# Altium integrated library Micron Memory PSRAM-CellularRAM.IntLib: 9 symbols (part 1 of 2)
Pins are listed as number, name and electrical type; pins without a type are passive.

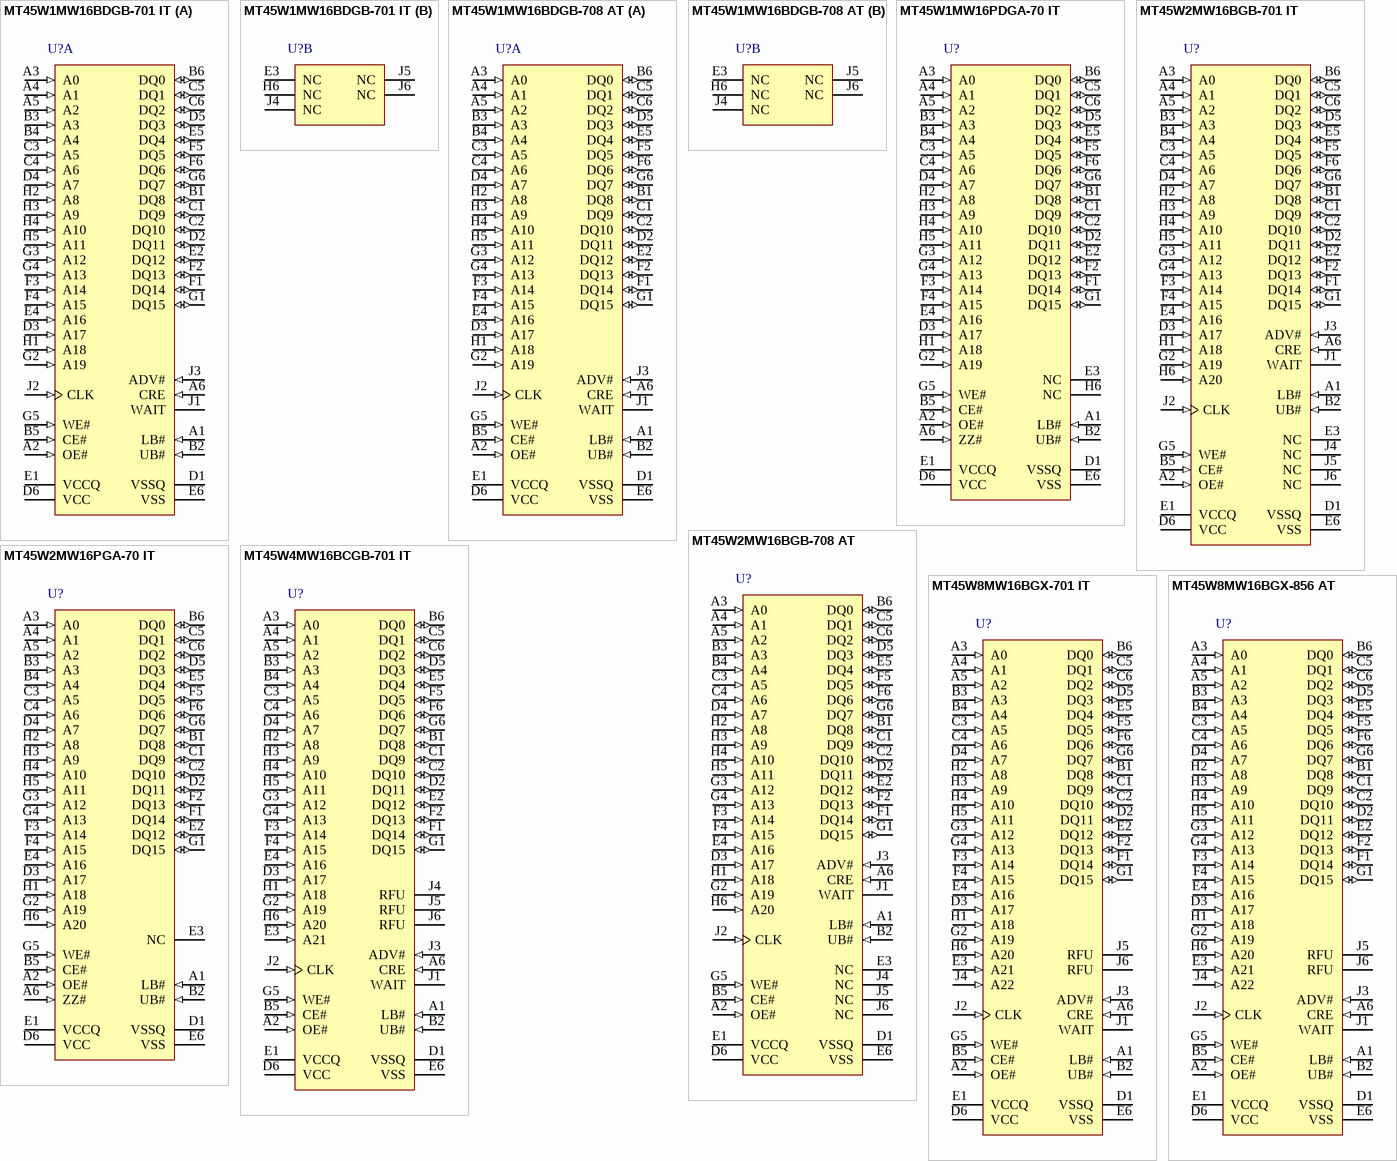
[diagram p0: symbols MT45W1MW16BDGB-701 IT to MT45W8MW16BGX-856 AT]

## MT45W1MW16BDGB-701 IT
designator U?
16Mb PSRAM Celluar RAM, 1Mb x 16, 70ns, 1.7V - 3.3V, -40 to 85 degC, 54-Ball VFBGA, Pb-Free; Manufacturer: Micron; PartNumber: MT45W1MW16BDGB-701 IT; Core Voltage: 1.7V-1.95V; Op. Temp.: -40C to +85C; Read/Write Mode: Async/Page/Burst; DatasheetVersion: Rev. H; PackageVersion: Rev.F; PackageReference: MICT-GB-54; PackageDescription: 54-Ball Very Thin Profile Fine-Pitch Ball Grid Array, 8 x 6 mm, Pitch 0.75 mm; Access Time: 70ns; Density: 16Mb; Depth: 1Mb; I/O Voltage: 1.7V-3.3V; Package: VFBGA; Part Status: Production; Pin Count: 54-ball; RoHS: Yes; Width: x16; Mounting Technology: Surface Mount; ComponentLink1Description: Manufacturer URL; ComponentLink1URL: http://www.micron.com/; ComponentLink2Description: Datasheet; ComponentLink2URL: http://www.micron.com/~/media/Documents/Products/Data%20Sheet/DRAM/Mobile%20DRAM/PSRAM/16mb_burst_cr1_0_p23z.pdf; ComponentLink3Description: Package Specification; ComponentLink3URL: http://www.micron.com/~/media/Documents/Products/Data%20Sheet/DRAM/Mobile%20DRAM/PSRAM/64Mb_burst_cr1_5_p25z.pdf
footprint MICT-GB-54 (BGA, 54-Balls, Body 8x6mm, Pitch 0.75mm)
part A pins: A1 LB# (in) "Lower byte enable: DQ[7:0].", A2 OE# (in) "Output enable: Enables the output buffers when LOW. When OE# is HIGH, the output buffers are disabled.", A3 A0 (in) "Address inputs: Inputs for addresses during READ and WRITE operations. Addresses are internally latched during READ and WRITE cycles. The address lines are also used to define the value to be loaded into the bus (See Datasheet)", A4 A1 (in) "Address inputs: Inputs for addresses during READ and WRITE operations. Addresses are internally latched during READ and WRITE cycles. The address lines are also used to define the value to be loaded into the bus (See Datasheet)", A5 A2 (in) "Address inputs: Inputs for addresses during READ and WRITE operations. Addresses are internally latched during READ and WRITE cycles. The address lines are also used to define the value to be loaded into the bus (See Datasheet)", A6 CRE (in) "Configuration register enable: When CRE is HIGH, WRITE operations load the refresh configuration register or bus configuration register.", B1 DQ8 (io) "Data inputs/outputs", B2 UB# (in) "Upper byte enable: DQ[15:8]", B3 A3 (in) "Address inputs: Inputs for addresses during READ and WRITE operations. Addresses are internally latched during READ and WRITE cycles. The address lines are also used to define the value to be loaded into the bus (See Datasheet)", B4 A4 (in) "Address inputs: Inputs for addresses during READ and WRITE operations. Addresses are internally latched during READ and WRITE cycles. The address lines are also used to define the value to be loaded into the bus (See Datasheet)", B5 CE# (in) "Chip enable: Activates the device when LOW. When CE# is HIGH, the device is disabled and goes into standby or deep power-down mode.", B6 DQ0 (io) "Data inputs/outputs", C1 DQ9 (io) "Data inputs/outputs", C2 DQ10 (io) "Data inputs/outputs", C3 A5 (in) "Address inputs: Inputs for addresses during READ and WRITE operations. Addresses are internally latched during READ and WRITE cycles. The address lines are also used to define the value to be loaded into the bus (See Datasheet)", C4 A6 (in) "Address inputs: Inputs for addresses during READ and WRITE operations. Addresses are internally latched during READ and WRITE cycles. The address lines are also used to define the value to be loaded into the bus (See Datasheet)", C5 DQ1 (io) "Data inputs/outputs", C6 DQ2 (io) "Data inputs/outputs", D1 VSSQ (power) "VSSQ must be connected to ground.", D2 DQ11 (io) "Data inputs/outputs", D3 A17 (in) "Address inputs: Inputs for addresses during READ and WRITE operations. Addresses are internally latched during READ and WRITE cycles. The address lines are also used to define the value to be loaded into the bus (See Datasheet)", D4 A7 (in) "Address inputs: Inputs for addresses during READ and WRITE operations. Addresses are internally latched during READ and WRITE cycles. The address lines are also used to define the value to be loaded into the bus (See Datasheet)", D5 DQ3 (io) "Data inputs/outputs", D6 VCC (power) "Device power supply (1.7-1.95V): Power supply for device core operation", E1 VCCQ (power) "I/O power supply (1.7-3.6V): Power supply for input/output buffers.", E2 DQ12 (io) "Data inputs/outputs", E4 A16 (in) "Address inputs: Inputs for addresses during READ and WRITE operations. Addresses are internally latched during READ and WRITE cycles. The address lines are also used to define the value to be loaded into the bus (See Datasheet)", E5 DQ4 (io) "Data inputs/outputs", E6 VSS (power) "VSS must be connected to ground.", F1 DQ14 (io) "Data inputs/outputs", F2 DQ13 (io) "Data inputs/outputs", F3 A14 (in) "Address inputs: Inputs for addresses during READ and WRITE operations. Addresses are internally latched during READ and WRITE cycles. The address lines are also used to define the value to be loaded into the bus (See Datasheet)", F4 A15 (in) "Address inputs: Inputs for addresses during READ and WRITE operations. Addresses are internally latched during READ and WRITE cycles. The address lines are also used to define the value to be loaded into the bus (See Datasheet)", F5 DQ5 (io) "Data inputs/outputs", F6 DQ6 (io) "Data inputs/outputs", G1 DQ15 (io) "Data inputs/outputs", G2 A19 (in) "Address inputs: Inputs for addresses during READ and WRITE operations. Addresses are internally latched during READ and WRITE cycles. The address lines are also used to define the value to be loaded into the bus (See Datasheet)", G3 A12 (in) "Address inputs: Inputs for addresses during READ and WRITE operations. Addresses are internally latched during READ and WRITE cycles. The address lines are also used to define the value to be loaded into the bus (See Datasheet)", G4 A13 (in) "Address inputs: Inputs for addresses during READ and WRITE operations. Addresses are internally latched during READ and WRITE cycles. The address lines are also used to define the value to be loaded into the bus (See Datasheet)", G5 WE# (in) "Write enable: Determines if a given cycle is a WRITE cycle. If WE# is LOW, the cycle is a WRITE to either a configuration register or to the memory array", G6 DQ7 (io) "Data inputs/outputs", H1 A18 (in) "Address inputs: Inputs for addresses during READ and WRITE operations. Addresses are internally latched during READ and WRITE cycles. The address lines are also used to define the value to be loaded into the bus (See Datasheet)", H2 A8 (in) "Address inputs: Inputs for addresses during READ and WRITE operations. Addresses are internally latched during READ and WRITE cycles. The address lines are also used to define the value to be loaded into the bus (See Datasheet)", H3 A9 (in) "Address inputs: Inputs for addresses during READ and WRITE operations. Addresses are internally latched during READ and WRITE cycles. The address lines are also used to define the value to be loaded into the bus (See Datasheet)", H4 A10 (in) "Address inputs: Inputs for addresses during READ and WRITE operations. Addresses are internally latched during READ and WRITE cycles. The address lines are also used to define the value to be loaded into the bus (See Datasheet)", H5 A11 (in) "Address inputs: Inputs for addresses during READ and WRITE operations. Addresses are internally latched during READ and WRITE cycles. The address lines are also used to define the value to be loaded into the bus (See Datasheet)", J1 WAIT (hiz) "Wait: Provides data-valid feedback during burst READ and WRITE operations. The signal is gated by CE#. WAIT is used to arbitrate collisions between REFRESH and READ/WRITE operations. WAIT is asserted when a burst crosses a (See Datasheet)", J2 CLK (in) "Clock: Synchronizes the memory to the system operating frequency during synchronous operations. When configured for synchronous operation, the address is latched on the first rising CLK edge when ADV# is active. CLK is (See Datasheet)", J3 ADV# (in) "Address valid: Indicates that a valid address is present on the address inputs. Addresses can be latched on the rising edge of ADV# during asynchronous READ and WRITE operations. ADV# can be held LOW during asynchronous READ (See Datasheet)"
part B pins: E3 NC "Not internally connected.", H6 NC "Not internally connected.", J4 NC "Not internally connected.", J5 NC "Not internally connected.", J6 NC "Not internally connected."

## MT45W1MW16BDGB-708 AT
designator U?
16Mb PSRAM Celluar RAM, 1Mb x 16, 70ns, 1.7V - 3.3V, -40 to 105 degC, 54-Ball VFBGA, Pb-Free; Manufacturer: Micron; PartNumber: MT45W1MW16BDGB-708 AT; Core Voltage: 1.7V-1.95V; Op. Temp.: -40C to +105C; Read/Write Mode: Async/Page/Burst; DatasheetVersion: Rev. H; PackageVersion: Rev.F; PackageReference: MICT-GB-54; PackageDescription: 54-Ball Very Thin Profile Fine-Pitch Ball Grid Array, 8 x 6 mm, Pitch 0.75 mm; Access Time: 70ns; Density: 16Mb; Depth: 1Mb; I/O Voltage: 1.7V-3.3V; Package: VFBGA; Part Status: Production; Pin Count: 54-ball; RoHS: Green; Width: x16; Mounting Technology: Surface Mount; ComponentLink1Description: Manufacturer URL; ComponentLink1URL: http://www.micron.com/; ComponentLink2Description: Datasheet; ComponentLink2URL: http://www.micron.com/~/media/Documents/Products/Data%20Sheet/DRAM/Mobile%20DRAM/PSRAM/16mb_burst_cr1_0_p23z.pdf; ComponentLink3Description: Package Specification; ComponentLink3URL: http://www.micron.com/~/media/Documents/Products/Data%20Sheet/DRAM/Mobile%20DRAM/PSRAM/64Mb_burst_cr1_5_p25z.pdf
footprint MICT-GB-54 (BGA, 54-Balls, Body 8x6mm, Pitch 0.75mm)
part A pins: A1 LB# (in) "Lower byte enable: DQ[7:0].", A2 OE# (in) "Output enable: Enables the output buffers when LOW. When OE# is HIGH, the output buffers are disabled.", A3 A0 (in) "Address inputs: Inputs for addresses during READ and WRITE operations. Addresses are internally latched during READ and WRITE cycles. The address lines are also used to define the value to be loaded into the bus (See Datasheet)", A4 A1 (in) "Address inputs: Inputs for addresses during READ and WRITE operations. Addresses are internally latched during READ and WRITE cycles. The address lines are also used to define the value to be loaded into the bus (See Datasheet)", A5 A2 (in) "Address inputs: Inputs for addresses during READ and WRITE operations. Addresses are internally latched during READ and WRITE cycles. The address lines are also used to define the value to be loaded into the bus (See Datasheet)", A6 CRE (in) "Configuration register enable: When CRE is HIGH, WRITE operations load the refresh configuration register or bus configuration register.", B1 DQ8 (io) "Data inputs/outputs", B2 UB# (in) "Upper byte enable: DQ[15:8]", B3 A3 (in) "Address inputs: Inputs for addresses during READ and WRITE operations. Addresses are internally latched during READ and WRITE cycles. The address lines are also used to define the value to be loaded into the bus (See Datasheet)", B4 A4 (in) "Address inputs: Inputs for addresses during READ and WRITE operations. Addresses are internally latched during READ and WRITE cycles. The address lines are also used to define the value to be loaded into the bus (See Datasheet)", B5 CE# (in) "Chip enable: Activates the device when LOW. When CE# is HIGH, the device is disabled and goes into standby or deep power-down mode.", B6 DQ0 (io) "Data inputs/outputs", C1 DQ9 (io) "Data inputs/outputs", C2 DQ10 (io) "Data inputs/outputs", C3 A5 (in) "Address inputs: Inputs for addresses during READ and WRITE operations. Addresses are internally latched during READ and WRITE cycles. The address lines are also used to define the value to be loaded into the bus (See Datasheet)", C4 A6 (in) "Address inputs: Inputs for addresses during READ and WRITE operations. Addresses are internally latched during READ and WRITE cycles. The address lines are also used to define the value to be loaded into the bus (See Datasheet)", C5 DQ1 (io) "Data inputs/outputs", C6 DQ2 (io) "Data inputs/outputs", D1 VSSQ (power) "VSSQ must be connected to ground.", D2 DQ11 (io) "Data inputs/outputs", D3 A17 (in) "Address inputs: Inputs for addresses during READ and WRITE operations. Addresses are internally latched during READ and WRITE cycles. The address lines are also used to define the value to be loaded into the bus (See Datasheet)", D4 A7 (in) "Address inputs: Inputs for addresses during READ and WRITE operations. Addresses are internally latched during READ and WRITE cycles. The address lines are also used to define the value to be loaded into the bus (See Datasheet)", D5 DQ3 (io) "Data inputs/outputs", D6 VCC (power) "Device power supply (1.7-1.95V): Power supply for device core operation", E1 VCCQ (power) "I/O power supply (1.7-3.6V): Power supply for input/output buffers.", E2 DQ12 (io) "Data inputs/outputs", E4 A16 (in) "Address inputs: Inputs for addresses during READ and WRITE operations. Addresses are internally latched during READ and WRITE cycles. The address lines are also used to define the value to be loaded into the bus (See Datasheet)", E5 DQ4 (io) "Data inputs/outputs", E6 VSS (power) "VSS must be connected to ground.", F1 DQ14 (io) "Data inputs/outputs", F2 DQ13 (io) "Data inputs/outputs", F3 A14 (in) "Address inputs: Inputs for addresses during READ and WRITE operations. Addresses are internally latched during READ and WRITE cycles. The address lines are also used to define the value to be loaded into the bus (See Datasheet)", F4 A15 (in) "Address inputs: Inputs for addresses during READ and WRITE operations. Addresses are internally latched during READ and WRITE cycles. The address lines are also used to define the value to be loaded into the bus (See Datasheet)", F5 DQ5 (io) "Data inputs/outputs", F6 DQ6 (io) "Data inputs/outputs", G1 DQ15 (io) "Data inputs/outputs", G2 A19 (in) "Address inputs: Inputs for addresses during READ and WRITE operations. Addresses are internally latched during READ and WRITE cycles. The address lines are also used to define the value to be loaded into the bus (See Datasheet)", G3 A12 (in) "Address inputs: Inputs for addresses during READ and WRITE operations. Addresses are internally latched during READ and WRITE cycles. The address lines are also used to define the value to be loaded into the bus (See Datasheet)", G4 A13 (in) "Address inputs: Inputs for addresses during READ and WRITE operations. Addresses are internally latched during READ and WRITE cycles. The address lines are also used to define the value to be loaded into the bus (See Datasheet)", G5 WE# (in) "Write enable: Determines if a given cycle is a WRITE cycle. If WE# is LOW, the cycle is a WRITE to either a configuration register or to the memory array", G6 DQ7 (io) "Data inputs/outputs", H1 A18 (in) "Address inputs: Inputs for addresses during READ and WRITE operations. Addresses are internally latched during READ and WRITE cycles. The address lines are also used to define the value to be loaded into the bus (See Datasheet)", H2 A8 (in) "Address inputs: Inputs for addresses during READ and WRITE operations. Addresses are internally latched during READ and WRITE cycles. The address lines are also used to define the value to be loaded into the bus (See Datasheet)", H3 A9 (in) "Address inputs: Inputs for addresses during READ and WRITE operations. Addresses are internally latched during READ and WRITE cycles. The address lines are also used to define the value to be loaded into the bus (See Datasheet)", H4 A10 (in) "Address inputs: Inputs for addresses during READ and WRITE operations. Addresses are internally latched during READ and WRITE cycles. The address lines are also used to define the value to be loaded into the bus (See Datasheet)", H5 A11 (in) "Address inputs: Inputs for addresses during READ and WRITE operations. Addresses are internally latched during READ and WRITE cycles. The address lines are also used to define the value to be loaded into the bus (See Datasheet)", J1 WAIT (hiz) "Wait: Provides data-valid feedback during burst READ and WRITE operations. The signal is gated by CE#. WAIT is used to arbitrate collisions between REFRESH and READ/WRITE operations. WAIT is asserted when a burst crosses a (See Datasheet)", J2 CLK (in) "Clock: Synchronizes the memory to the system operating frequency during synchronous operations. When configured for synchronous operation, the address is latched on the first rising CLK edge when ADV# is active. CLK is (See Datasheet)", J3 ADV# (in) "Address valid: Indicates that a valid address is present on the address inputs. Addresses can be latched on the rising edge of ADV# during asynchronous READ and WRITE operations. ADV# can be held LOW during asynchronous READ (See Datasheet)"
part B pins: E3 NC "Not internally connected.", H6 NC "Not internally connected.", J4 NC "Not internally connected.", J5 NC "Not internally connected.", J6 NC "Not internally connected."

## MT45W1MW16PDGA-70 IT
designator U?
16Mb PSRAM Celluar RAM, 1Mb x 16, 70ns, 1.7V - 3.3V, -40 to 85 degC, 48-Ball VFBGA, Pb-Free; Manufacturer: Micron; PartNumber: MT45W1MW16PDGA-70 IT; Core Voltage: 1.7V-1.95V; Op. Temp.: -40C to +85C; Read/Write Mode: Async/Page; DatasheetVersion: Rev. F; PackageVersion: Rev.F; PackageReference: MICT-GA-48; PackageDescription: 48-Ball Very Thin Profile Fine-Pitch Ball Grid Array, 8 x 6 mm, Pitch 0.75 mm; Access Time: 70ns; Density: 16Mb; Depth: 1Mb; I/O Voltage: 1.7V-3.3V; Package: VFBGA; Part Status: Production; Pin Count: 48-ball; RoHS: Green; Width: x16; Mounting Technology: Surface Mount; ComponentLink1Description: Manufacturer URL; ComponentLink1URL: http://www.micron.com/; ComponentLink2Description: Datasheet; ComponentLink2URL: http://www.micron.com/~/media/Documents/Products/Data%20Sheet/DRAM/Mobile%20DRAM/PSRAM/16mb_asyncpage_cr1_0_p23z.pdf; ComponentLink3Description: Package Specification; ComponentLink3URL: http://www.micron.com/~/media/Documents/Products/Data%20Sheet/DRAM/Mobile%20DRAM/PSRAM/16mb_asyncpage_cr1_0_p23z.pdf
footprint MICT-GA-48 (BGA, 48-Balls, Body 8x6mm, Pitch 0.75mm)
pins: A1 LB# (in) "Lower byte enable: DQ[7:0]", A2 OE# (in) "Output enable: Enables the output buffers when LOW. When OE# is HIGH, the output buffers are disabled.", A3 A0 (in) "Address inputs: Inputs for the address accessed during READ or WRITE operations.The address lines are also used to define the value to be loaded into the CR.", A4 A1 (in) "Address inputs: Inputs for the address accessed during READ or WRITE operations.The address lines are also used to define the value to be loaded into the CR.", A5 A2 (in) "Address inputs: Inputs for the address accessed during READ or WRITE operations.The address lines are also used to define the value to be loaded into the CR.", A6 ZZ# (in) "Sleep enable: When ZZ# is LOW, the CR can be loaded or the device can enter one of two low-power modes (DPD or PAR).", B1 DQ8 (io) "Data inputs/outputs.", B2 UB# (in) "Upper byte enable: DQ[15:8]", B3 A3 (in) "Address inputs: Inputs for the address accessed during READ or WRITE operations.The address lines are also used to define the value to be loaded into the CR.", B4 A4 (in) "Address inputs: Inputs for the address accessed during READ or WRITE operations.The address lines are also used to define the value to be loaded into the CR.", B5 CE# (in) "Chip enable: Activates the device when LOW. When CE# is HIGH, the device is disabled and goes into standby power mode.", B6 DQ0 (io) "Data inputs/outputs.", C1 DQ9 (io) "Data inputs/outputs.", C2 DQ10 (io) "Data inputs/outputs.", C3 A5 (in) "Address inputs: Inputs for the address accessed during READ or WRITE operations.The address lines are also used to define the value to be loaded into the CR.", C4 A6 (in) "Address inputs: Inputs for the address accessed during READ or WRITE operations.The address lines are also used to define the value to be loaded into the CR.", C5 DQ1 (io) "Data inputs/outputs.", C6 DQ2 (io) "Data inputs/outputs.", D1 VSSQ (power) "VSSQ must be connected to ground.", D2 DQ11 (io) "Data inputs/outputs.", D3 A17 (in) "Address inputs: Inputs for the address accessed during READ or WRITE operations.The address lines are also used to define the value to be loaded into the CR.", D4 A7 (in) "Address inputs: Inputs for the address accessed during READ or WRITE operations.The address lines are also used to define the value to be loaded into the CR.", D5 DQ3 (io) "Data inputs/outputs.", D6 VCC (power) "Device power supply: (1.7V-1.95V) Power supply for device core operation.", E1 VCCQ (power) "I/O power supply: (1.7V-3.6V) Power supply for input/output buffers.", E2 DQ12 (io) "Data inputs/outputs.", E3 NC "Not internally connected.", E4 A16 (in) "Address inputs: Inputs for the address accessed during READ or WRITE operations.The address lines are also used to define the value to be loaded into the CR.", E5 DQ4 (io) "Data inputs/outputs.", E6 VSS (power) "VSS must be connected to ground.", F1 DQ14 (io) "Data inputs/outputs.", F2 DQ13 (io) "Data inputs/outputs.", F3 A14 (in) "Address inputs: Inputs for the address accessed during READ or WRITE operations.The address lines are also used to define the value to be loaded into the CR.", F4 A15 (in) "Address inputs: Inputs for the address accessed during READ or WRITE operations.The address lines are also used to define the value to be loaded into the CR.", F5 DQ5 (io) "Data inputs/outputs.", F6 DQ6 (io) "Data inputs/outputs.", G1 DQ15 (io) "Data inputs/outputs.", G2 A19 (in) "Address inputs: Inputs for the address accessed during READ or WRITE operations.The address lines are also used to define the value to be loaded into the CR.", G3 A12 (in) "Address inputs: Inputs for the address accessed during READ or WRITE operations.The address lines are also used to define the value to be loaded into the CR.", G4 A13 (in) "Address inputs: Inputs for the address accessed during READ or WRITE operations.The address lines are also used to define the value to be loaded into the CR.", G5 WE# (in) "Write enable: Enables WRITE operations when LOW.", G6 DQ7 (io) "Data inputs/outputs.", H1 A18 (in) "Address inputs: Inputs for the address accessed during READ or WRITE operations.The address lines are also used to define the value to be loaded into the CR.", H2 A8 (in) "Address inputs: Inputs for the address accessed during READ or WRITE operations.The address lines are also used to define the value to be loaded into the CR.", H3 A9 (in) "Address inputs: Inputs for the address accessed during READ or WRITE operations.The address lines are also used to define the value to be loaded into the CR.", H4 A10 (in) "Address inputs: Inputs for the address accessed during READ or WRITE operations.The address lines are also used to define the value to be loaded into the CR.", H5 A11 (in) "Address inputs: Inputs for the address accessed during READ or WRITE operations.The address lines are also used to define the value to be loaded into the CR.", H6 NC "Not internally connected."

## MT45W2MW16BGB-701 IT
designator U?
32Mb PSRAM Celluar RAM, 2Mb x 16, 70ns, 1.7V - 3.6V, -40 to 85 degC, 54-Ball VFBGA, Pb-Free; Manufacturer: Micron; PartNumber: MT45W2MW16BGB-701 IT; Core Voltage: 1.7V-1.95V; Op. Temp.: -40C to +85C; Read/Write Mode: Async/Page/Burst; DatasheetVersion: Rev. E; PackageVersion: Rev.F; PackageReference: MICT-GB-54; PackageDescription: 54-Ball Very Thin Profile Fine-Pitch Ball Grid Array, 8 x 6 mm, Pitch 0.75 mm; Access Time: 70ns; Density: 32Mb; Depth: 2Mb; I/O Voltage: 1.7V-3.6V; Package: VFBGA; Part Status: Production; Pin Count: 54-ball; RoHS: Green; Width: x16; Mounting Technology: Surface Mount; ComponentLink1Description: Manufacturer URL; ComponentLink1URL: http://www.micron.com/; ComponentLink2Description: Datasheet; ComponentLink2URL: http://www.micron.com/~/media/Documents/Products/Data%20Sheet/DRAM/Mobile%20DRAM/PSRAM/32mb_burst_c1_0_p24z.pdf; ComponentLink3Description: Package Specification; ComponentLink3URL: http://www.micron.com/~/media/Documents/Products/Data%20Sheet/DRAM/Mobile%20DRAM/PSRAM/64Mb_burst_cr1_5_p25z.pdf
footprint MICT-GB-54 (BGA, 54-Balls, Body 8x6mm, Pitch 0.75mm)
pins: A1 LB# (in) "Lower byte enable: DQ[7:0]", A2 OE# (in) "Output enable: Enables the output buffers when LOW. When OE# is HIGH, the output buffers are disabled.", A3 A0 (in) "Address inputs: Inputs for addresses during READ and WRITE operations. Addresses are internally latched during READ and WRITE cycles. The address lines are also used to define the value to be loaded into the BCR or the RCR", A4 A1 (in) "Address inputs: Inputs for addresses during READ and WRITE operations. Addresses are internally latched during READ and WRITE cycles. The address lines are also used to define the value to be loaded into the BCR or the RCR", A5 A2 (in) "Address inputs: Inputs for addresses during READ and WRITE operations. Addresses are internally latched during READ and WRITE cycles. The address lines are also used to define the value to be loaded into the BCR or the RCR", A6 CRE (in) "Configuration register enable: When CRE is HIGH, WRITE operations load the RCR or BCR, and READ operations either access the RCR or the BCR.", B1 DQ8 (io) "Data inputs/outputs.", B2 UB# (in) "Upper byte enable: DQ[15:8]", B3 A3 (in) "Address inputs: Inputs for addresses during READ and WRITE operations. Addresses are internally latched during READ and WRITE cycles. The address lines are also used to define the value to be loaded into the BCR or the RCR", B4 A4 (in) "Address inputs: Inputs for addresses during READ and WRITE operations. Addresses are internally latched during READ and WRITE cycles. The address lines are also used to define the value to be loaded into the BCR or the RCR", B5 CE# (in) "Chip enable: Activates the device when LOW. When CE# is HIGH, the device is disabled and goes into standby or deep power-down mode.", B6 DQ0 (io) "Data inputs/outputs.", C1 DQ9 (io) "Data inputs/outputs.", C2 DQ10 (io) "Data inputs/outputs.", C3 A5 (in) "Address inputs: Inputs for addresses during READ and WRITE operations. Addresses are internally latched during READ and WRITE cycles. The address lines are also used to define the value to be loaded into the BCR or the RCR", C4 A6 (in) "Address inputs: Inputs for addresses during READ and WRITE operations. Addresses are internally latched during READ and WRITE cycles. The address lines are also used to define the value to be loaded into the BCR or the RCR", C5 DQ1 (io) "Data inputs/outputs.", C6 DQ2 (io) "Data inputs/outputs.", D1 VSSQ (power) "VSSQ must be connected to ground", D2 DQ11 (io) "Data inputs/outputs.", D3 A17 (in) "Address inputs: Inputs for addresses during READ and WRITE operations. Addresses are internally latched during READ and WRITE cycles. The address lines are also used to define the value to be loaded into the BCR or the RCR", D4 A7 (in) "Address inputs: Inputs for addresses during READ and WRITE operations. Addresses are internally latched during READ and WRITE cycles. The address lines are also used to define the value to be loaded into the BCR or the RCR", D5 DQ3 (io) "Data inputs/outputs.", D6 VCC (power) "Device power supply (1.7-1.95V): Power supply for device core operation.", E1 VCCQ (power) "I/O power supply (1.7-3.6V): Power supply for input/output buffers.", E2 DQ12 (io) "Data inputs/outputs.", E3 NC "Not internally connected", E4 A16 (in) "Address inputs: Inputs for addresses during READ and WRITE operations. Addresses are internally latched during READ and WRITE cycles. The address lines are also used to define the value to be loaded into the BCR or the RCR", E5 DQ4 (io) "Data inputs/outputs.", E6 VSS (power) "VSS must be connected to ground.", F1 DQ14 (io) "Data inputs/outputs.", F2 DQ13 (io) "Data inputs/outputs.", F3 A14 (in) "Address inputs: Inputs for addresses during READ and WRITE operations. Addresses are internally latched during READ and WRITE cycles. The address lines are also used to define the value to be loaded into the BCR or the RCR", F4 A15 (in) "Address inputs: Inputs for addresses during READ and WRITE operations. Addresses are internally latched during READ and WRITE cycles. The address lines are also used to define the value to be loaded into the BCR or the RCR", F5 DQ5 (io) "Data inputs/outputs.", F6 DQ6 (io) "Data inputs/outputs.", G1 DQ15 (io) "Data inputs/outputs.", G2 A19 (in) "Address inputs: Inputs for addresses during READ and WRITE operations. Addresses are internally latched during READ and WRITE cycles. The address lines are also used to define the value to be loaded into the BCR or the RCR", G3 A12 (in) "Address inputs: Inputs for addresses during READ and WRITE operations. Addresses are internally latched during READ and WRITE cycles. The address lines are also used to define the value to be loaded into the BCR or the RCR", G4 A13 (in) "Address inputs: Inputs for addresses during READ and WRITE operations. Addresses are internally latched during READ and WRITE cycles. The address lines are also used to define the value to be loaded into the BCR or the RCR", G5 WE# (in) "WRITE enable: Determines whether a given cycle is a WRITE cycle. If WE# is LOW, the cycle is a WRITE to either a configuration register or the memory array.", G6 DQ7 (io) "Data inputs/outputs.", H1 A18 (in) "Address inputs: Inputs for addresses during READ and WRITE operations. Addresses are internally latched during READ and WRITE cycles. The address lines are also used to define the value to be loaded into the BCR or the RCR", H2 A8 (in) "Address inputs: Inputs for addresses during READ and WRITE operations. Addresses are internally latched during READ and WRITE cycles. The address lines are also used to define the value to be loaded into the BCR or the RCR", H3 A9 (in) "Address inputs: Inputs for addresses during READ and WRITE operations. Addresses are internally latched during READ and WRITE cycles. The address lines are also used to define the value to be loaded into the BCR or the RCR", H4 A10 (in) "Address inputs: Inputs for addresses during READ and WRITE operations. Addresses are internally latched during READ and WRITE cycles. The address lines are also used to define the value to be loaded into the BCR or the RCR", H5 A11 (in) "Address inputs: Inputs for addresses during READ and WRITE operations. Addresses are internally latched during READ and WRITE cycles. The address lines are also used to define the value to be loaded into the BCR or the RCR", H6 A20 (in) "Address inputs: Inputs for addresses during READ and WRITE operations. Addresses are internally latched during READ and WRITE cycles. The address lines are also used to define the value to be loaded into the BCR or the RCR", J1 WAIT (hiz) "Wait: Provides data-valid feedback during burst READ and WRITE operations. The signal is gated by CE#. WAIT is used to arbitrate collisions between REFRESH and READ/WRITE operations. WAIT is asserted when a burst crosses a (See Datasheet)", J2 CLK (in) "Clock: Synchronizes the memory to the system operating frequency during synchronous operations. When configured for synchronous operation, the address is latched on the first rising CLK edge when ADV# is active. CLK must be (See Datasheet)", J3 ADV# (in) "Address valid: Indicates that a valid address is present on the address inputs. Addresses can be latched on the rising edge of ADV# during asynchronous READ and WRITE operations. ADV# can be held LOW during asynchronous READ (See Datasheet)", J4 NC "Not internally connected", J5 NC "Not internally connected", J6 NC "Not internally connected"

## MT45W2MW16BGB-708 AT
designator U?
32Mb PSRAM Celluar RAM, 2Mb x 16, 70ns, 1.7V - 3.3V, -40 to 105 degC, 54-Ball VFBGA, Pb-Free; Manufacturer: Micron; PartNumber: MT45W2MW16BGB-708 AT; Core Voltage: 1.7V-1.95V; Op. Temp.: -40C to +105C; Read/Write Mode: Async/Page/Burst; DatasheetVersion: Rev. E; PackageVersion: Rev.F; PackageReference: MICT-GB-54; PackageDescription: 54-Ball Very Thin Profile Fine-Pitch Ball Grid Array, 8 x 6 mm, Pitch 0.75 mm; Access Time: 70ns; Density: 32Mb; Depth: 2Mb; I/O Voltage: 1.7V-3.3V; Package: VFBGA; Part Status: Production; Pin Count: 54-ball; RoHS: Green; Width: x16; Mounting Technology: Surface Mount; ComponentLink1Description: Manufacturer URL; ComponentLink1URL: http://www.micron.com/; ComponentLink2Description: Datasheet; ComponentLink2URL: http://www.micron.com/~/media/Documents/Products/Data%20Sheet/DRAM/Mobile%20DRAM/PSRAM/32mb_burst_c1_0_p24z.pdf; ComponentLink3Description: Package Specification; ComponentLink3URL: http://www.micron.com/~/media/Documents/Products/Data%20Sheet/DRAM/Mobile%20DRAM/PSRAM/64Mb_burst_cr1_5_p25z.pdf
footprint MICT-GB-54 (BGA, 54-Balls, Body 8x6mm, Pitch 0.75mm)
pins: A1 LB# (in) "Lower byte enable: DQ[7:0]", A2 OE# (in) "Output enable: Enables the output buffers when LOW. When OE# is HIGH, the output buffers are disabled.", A3 A0 (in) "Address inputs: Inputs for addresses during READ and WRITE operations. Addresses are internally latched during READ and WRITE cycles. The address lines are also used to define the value to be loaded into the BCR or the RCR", A4 A1 (in) "Address inputs: Inputs for addresses during READ and WRITE operations. Addresses are internally latched during READ and WRITE cycles. The address lines are also used to define the value to be loaded into the BCR or the RCR", A5 A2 (in) "Address inputs: Inputs for addresses during READ and WRITE operations. Addresses are internally latched during READ and WRITE cycles. The address lines are also used to define the value to be loaded into the BCR or the RCR", A6 CRE (in) "Configuration register enable: When CRE is HIGH, WRITE operations load the RCR or BCR, and READ operations either access the RCR or the BCR.", B1 DQ8 (io) "Data inputs/outputs.", B2 UB# (in) "Upper byte enable: DQ[15:8]", B3 A3 (in) "Address inputs: Inputs for addresses during READ and WRITE operations. Addresses are internally latched during READ and WRITE cycles. The address lines are also used to define the value to be loaded into the BCR or the RCR", B4 A4 (in) "Address inputs: Inputs for addresses during READ and WRITE operations. Addresses are internally latched during READ and WRITE cycles. The address lines are also used to define the value to be loaded into the BCR or the RCR", B5 CE# (in) "Chip enable: Activates the device when LOW. When CE# is HIGH, the device is disabled and goes into standby or deep power-down mode.", B6 DQ0 (io) "Data inputs/outputs.", C1 DQ9 (io) "Data inputs/outputs.", C2 DQ10 (io) "Data inputs/outputs.", C3 A5 (in) "Address inputs: Inputs for addresses during READ and WRITE operations. Addresses are internally latched during READ and WRITE cycles. The address lines are also used to define the value to be loaded into the BCR or the RCR", C4 A6 (in) "Address inputs: Inputs for addresses during READ and WRITE operations. Addresses are internally latched during READ and WRITE cycles. The address lines are also used to define the value to be loaded into the BCR or the RCR", C5 DQ1 (io) "Data inputs/outputs.", C6 DQ2 (io) "Data inputs/outputs.", D1 VSSQ (power) "VSSQ must be connected to ground", D2 DQ11 (io) "Data inputs/outputs.", D3 A17 (in) "Address inputs: Inputs for addresses during READ and WRITE operations. Addresses are internally latched during READ and WRITE cycles. The address lines are also used to define the value to be loaded into the BCR or the RCR", D4 A7 (in) "Address inputs: Inputs for addresses during READ and WRITE operations. Addresses are internally latched during READ and WRITE cycles. The address lines are also used to define the value to be loaded into the BCR or the RCR", D5 DQ3 (io) "Data inputs/outputs.", D6 VCC (power) "Device power supply (1.7-1.95V): Power supply for device core operation.", E1 VCCQ (power) "I/O power supply (1.7-3.6V): Power supply for input/output buffers.", E2 DQ12 (io) "Data inputs/outputs.", E3 NC "Not internally connected", E4 A16 (in) "Address inputs: Inputs for addresses during READ and WRITE operations. Addresses are internally latched during READ and WRITE cycles. The address lines are also used to define the value to be loaded into the BCR or the RCR", E5 DQ4 (io) "Data inputs/outputs.", E6 VSS (power) "VSS must be connected to ground.", F1 DQ14 (io) "Data inputs/outputs.", F2 DQ13 (io) "Data inputs/outputs.", F3 A14 (in) "Address inputs: Inputs for addresses during READ and WRITE operations. Addresses are internally latched during READ and WRITE cycles. The address lines are also used to define the value to be loaded into the BCR or the RCR", F4 A15 (in) "Address inputs: Inputs for addresses during READ and WRITE operations. Addresses are internally latched during READ and WRITE cycles. The address lines are also used to define the value to be loaded into the BCR or the RCR", F5 DQ5 (io) "Data inputs/outputs.", F6 DQ6 (io) "Data inputs/outputs.", G1 DQ15 (io) "Data inputs/outputs.", G2 A19 (in) "Address inputs: Inputs for addresses during READ and WRITE operations. Addresses are internally latched during READ and WRITE cycles. The address lines are also used to define the value to be loaded into the BCR or the RCR", G3 A12 (in) "Address inputs: Inputs for addresses during READ and WRITE operations. Addresses are internally latched during READ and WRITE cycles. The address lines are also used to define the value to be loaded into the BCR or the RCR", G4 A13 (in) "Address inputs: Inputs for addresses during READ and WRITE operations. Addresses are internally latched during READ and WRITE cycles. The address lines are also used to define the value to be loaded into the BCR or the RCR", G5 WE# (in) "WRITE enable: Determines whether a given cycle is a WRITE cycle. If WE# is LOW, the cycle is a WRITE to either a configuration register or the memory array.", G6 DQ7 (io) "Data inputs/outputs.", H1 A18 (in) "Address inputs: Inputs for addresses during READ and WRITE operations. Addresses are internally latched during READ and WRITE cycles. The address lines are also used to define the value to be loaded into the BCR or the RCR", H2 A8 (in) "Address inputs: Inputs for addresses during READ and WRITE operations. Addresses are internally latched during READ and WRITE cycles. The address lines are also used to define the value to be loaded into the BCR or the RCR", H3 A9 (in) "Address inputs: Inputs for addresses during READ and WRITE operations. Addresses are internally latched during READ and WRITE cycles. The address lines are also used to define the value to be loaded into the BCR or the RCR", H4 A10 (in) "Address inputs: Inputs for addresses during READ and WRITE operations. Addresses are internally latched during READ and WRITE cycles. The address lines are also used to define the value to be loaded into the BCR or the RCR", H5 A11 (in) "Address inputs: Inputs for addresses during READ and WRITE operations. Addresses are internally latched during READ and WRITE cycles. The address lines are also used to define the value to be loaded into the BCR or the RCR", H6 A20 (in) "Address inputs: Inputs for addresses during READ and WRITE operations. Addresses are internally latched during READ and WRITE cycles. The address lines are also used to define the value to be loaded into the BCR or the RCR", J1 WAIT (hiz) "Wait: Provides data-valid feedback during burst READ and WRITE operations. The signal is gated by CE#. WAIT is used to arbitrate collisions between REFRESH and READ/WRITE operations. WAIT is asserted when a burst crosses a (See Datasheet)", J2 CLK (in) "Clock: Synchronizes the memory to the system operating frequency during synchronous operations. When configured for synchronous operation, the address is latched on the first rising CLK edge when ADV# is active. CLK must be (See Datasheet)", J3 ADV# (in) "Address valid: Indicates that a valid address is present on the address inputs. Addresses can be latched on the rising edge of ADV# during asynchronous READ and WRITE operations. ADV# can be held LOW during asynchronous READ (See Datasheet)", J4 NC "Not internally connected", J5 NC "Not internally connected", J6 NC "Not internally connected"

## MT45W2MW16PGA-70 IT
designator U?
32Mb PSRAM Celluar RAM, 2Mb x 16, 70ns, 1.7V - 3.6V, -40 to 85 degC, 48-Ball VFBGA, Pb-Free; Manufacturer: Micron; PartNumber: MT45W2MW16PGA-70 IT; Core Voltage: 1.7V-1.95V; Op. Temp.: -40C to +85C; Read/Write Mode: Async/Page; DatasheetVersion: Rev. B; PackageVersion: Rev.F; PackageReference: MICT-GA-48; PackageDescription: 48-Ball Very Thin Profile Fine-Pitch Ball Grid Array, 8 x 6 mm, Pitch 0.75 mm; Access Time: 70ns; Density: 32Mb; Depth: 2Mb; I/O Voltage: 1.7V-3.6V; Package: VFBGA; Part Status: Production; Pin Count: 48-ball; RoHS: Green; Width: x16; Mounting Technology: Surface Mount; ComponentLink1Description: Manufacturer URL; ComponentLink1URL: http://www.micron.com/; ComponentLink2Description: Datasheet; ComponentLink2URL: http://www.micron.com/~/media/Documents/Products/Data%20Sheet/DRAM/Mobile%20DRAM/PSRAM/32mb_asyncpage_c1_0_p24z.pdf; ComponentLink3Description: Package Specification; ComponentLink3URL: http://www.micron.com/~/media/Documents/Products/Data%20Sheet/DRAM/Mobile%20DRAM/PSRAM/16mb_asyncpage_cr1_0_p23z.pdf
footprint MICT-GA-48 (BGA, 48-Balls, Body 8x6mm, Pitch 0.75mm)
pins: A1 LB# (in) "Lower byte enable: DQ[7:0].", A2 OE# (in) "Output enable: Enables the output buffers when LOW. When OE# is HIGH, the output buffers are disabled.", A3 A0 (in) "Address inputs: Inputs for the address accessed during READ or WRITE operations. The address lines are also used to define the value to be loaded into the CR", A4 A1 (in) "Address inputs: Inputs for the address accessed during READ or WRITE operations. The address lines are also used to define the value to be loaded into the CR", A5 A2 (in) "Address inputs: Inputs for the address accessed during READ or WRITE operations. The address lines are also used to define the value to be loaded into the CR", A6 ZZ# (in) "Sleep enable: When ZZ# is LOW, the CR can be loaded or the device can enter one of two low-power modes (DPD or PAR)", B1 DQ8 (io) "Data inputs/outputs.", B2 UB# (in) "Upper byte enable: DQ[15:8].", B3 A3 (in) "Address inputs: Inputs for the address accessed during READ or WRITE operations. The address lines are also used to define the value to be loaded into the CR", B4 A4 (in) "Address inputs: Inputs for the address accessed during READ or WRITE operations. The address lines are also used to define the value to be loaded into the CR", B5 CE# (in) "Chip enable: Activates the device when LOW. When CE# is HIGH, the device is disabled and goes into standby power mode", B6 DQ0 (io) "Data inputs/outputs.", C1 DQ9 (io) "Data inputs/outputs.", C2 DQ10 (io) "Data inputs/outputs.", C3 A5 (in) "Address inputs: Inputs for the address accessed during READ or WRITE operations. The address lines are also used to define the value to be loaded into the CR", C4 A6 (in) "Address inputs: Inputs for the address accessed during READ or WRITE operations. The address lines are also used to define the value to be loaded into the CR", C5 DQ1 (io) "Data inputs/outputs.", C6 DQ2 (io) "Data inputs/outputs.", D1 VSSQ (power) "VSSQ must be connected to ground.", D2 DQ11 (io) "Data inputs/outputs.", D3 A17 (in) "Address inputs: Inputs for the address accessed during READ or WRITE operations. The address lines are also used to define the value to be loaded into the CR", D4 A7 (in) "Address inputs: Inputs for the address accessed during READ or WRITE operations. The address lines are also used to define the value to be loaded into the CR", D5 DQ3 (io) "Data inputs/outputs.", D6 VCC (power) "Device power supply: (1.7-1.95V) Power supply for device core operation.", E1 VCCQ (power) "I/O power supply: (1.7-3.6V) Power supply for input/output buffers.", E2 DQ12 (io) "Data inputs/outputs.", E3 NC "Not internally connected.", E4 A16 (in) "Address inputs: Inputs for the address accessed during READ or WRITE operations. The address lines are also used to define the value to be loaded into the CR", E5 DQ4 (io) "Data inputs/outputs.", E6 VSS (power) "VSS must be connected to ground.", F1 DQ14 (io) "Data inputs/outputs.", F2 DQ13 (io) "Data inputs/outputs.", F3 A14 (in) "Address inputs: Inputs for the address accessed during READ or WRITE operations. The address lines are also used to define the value to be loaded into the CR", F4 A15 (in) "Address inputs: Inputs for the address accessed during READ or WRITE operations. The address lines are also used to define the value to be loaded into the CR", F5 DQ5 (io) "Data inputs/outputs.", F6 DQ6 (io) "Data inputs/outputs.", G1 DQ15 (io) "Data inputs/outputs.", G2 A19 (in) "Address inputs: Inputs for the address accessed during READ or WRITE operations. The address lines are also used to define the value to be loaded into the CR", G3 A12 (in) "Address inputs: Inputs for the address accessed during READ or WRITE operations. The address lines are also used to define the value to be loaded into the CR", G4 A13 (in) "Address inputs: Inputs for the address accessed during READ or WRITE operations. The address lines are also used to define the value to be loaded into the CR", G5 WE# (in) "Write enable: Enables WRITE operations when LOW.", G6 DQ7 (io) "Data inputs/outputs.", H1 A18 (in) "Address inputs: Inputs for the address accessed during READ or WRITE operations. The address lines are also used to define the value to be loaded into the CR", H2 A8 (in) "Address inputs: Inputs for the address accessed during READ or WRITE operations. The address lines are also used to define the value to be loaded into the CR", H3 A9 (in) "Address inputs: Inputs for the address accessed during READ or WRITE operations. The address lines are also used to define the value to be loaded into the CR", H4 A10 (in) "Address inputs: Inputs for the address accessed during READ or WRITE operations. The address lines are also used to define the value to be loaded into the CR", H5 A11 (in) "Address inputs: Inputs for the address accessed during READ or WRITE operations. The address lines are also used to define the value to be loaded into the CR", H6 A20 (in) "Address inputs: Inputs for the address accessed during READ or WRITE operations. The address lines are also used to define the value to be loaded into the CR"